# EAGLE library part HEADER-1X8 (library microbuilder)
PIN HEADER
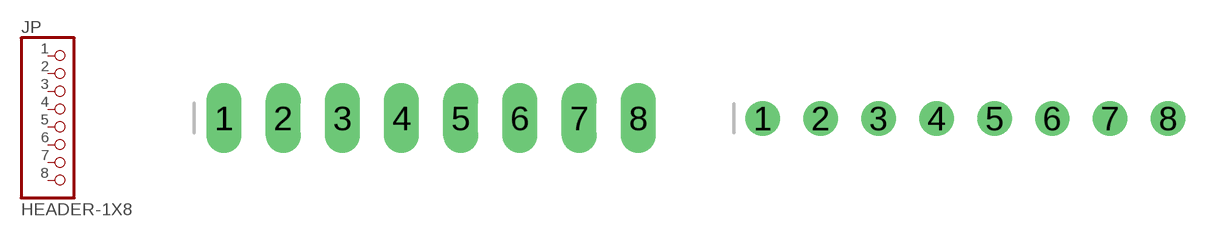
[diagram p14: symbol with the pads of 1X08_OVAL; footprints 1X08_OVAL, 1X08_ROUND]

Designator prefix JP

## HEADER-1X8  [1X08_OVAL]
1  1  pas
2  2  pas
3  3  pas
4  4  pas
5  5  pas
6  6  pas
7  7  pas
8  8  pas

## HEADER-1X8ROUND  [1X08_ROUND]
Pads as for 1X08_OVAL

## Footprint 1X08_OVAL (pad centres in mm)
PIN HEADER
drill 1 long: 1 -8.89,0; 2 -6.35,0; 3 -3.81,0; 4 -1.27,0; 5 1.27,0; 6 3.81,0; 7 6.35,0; 8 8.89,0

## Footprint 1X08_ROUND (pad centres in mm)
drill 1 round: 1 -8.89,0; 2 -6.35,0; 3 -3.81,0; 4 -1.27,0; 5 1.27,0; 6 3.81,0; 7 6.35,0; 8 8.89,0